# EAGLE library part HEX (library dec-con)
Hex-Height DEC Edge Connector
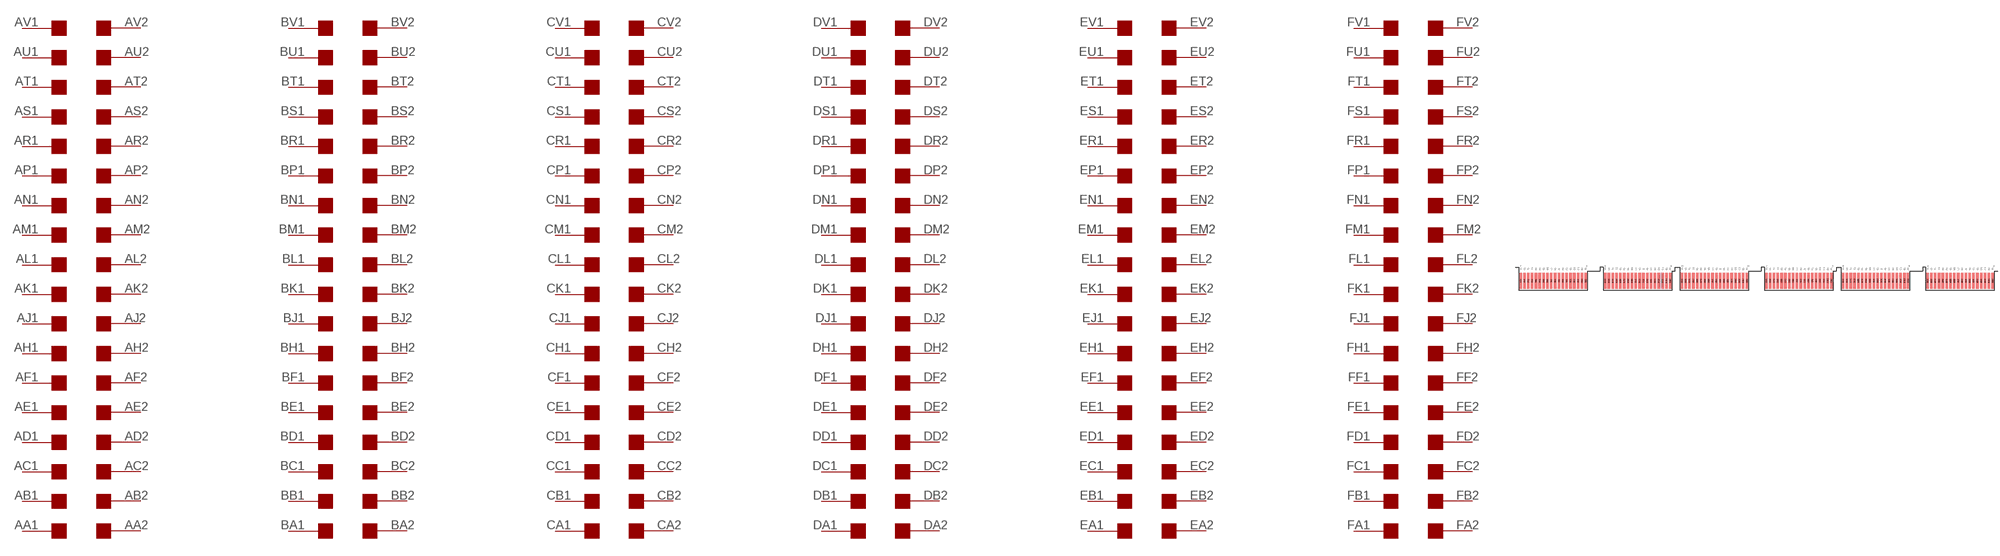
[diagram p15: symbol with the pads of EDGE-CON12; footprint EDGE-CON12]

Designator prefix -; gates AL2=EDGE-RIGHT AM2=EDGE-RIGHT AN2=EDGE-RIGHT AP2=EDGE-RIGHT AR2=EDGE-RIGHT AS2=EDGE-RIGHT AT2=EDGE-RIGHT AK2=EDGE-RIGHT AJ2=EDGE-RIGHT AH2=EDGE-RIGHT AF2=EDGE-RIGHT AE2=EDGE-RIGHT AD2=EDGE-RIGHT AC2=EDGE-RIGHT AU2=EDGE-RIGHT AV2=EDGE-RIGHT AB2=EDGE-RIGHT AA2=EDGE-RIGHT AK1=EDGE-LEFT AL1=EDGE-LEFT AM1=EDGE-LEFT AN1=EDGE-LEFT AP1=EDGE-LEFT AR1=EDGE-LEFT AS1=EDGE-LEFT AT1=EDGE-LEFT AU1=EDGE-LEFT AV1=EDGE-LEFT AJ1=EDGE-LEFT AH1=EDGE-LEFT AF1=EDGE-LEFT AE1=EDGE-LEFT AD1=EDGE-LEFT AC1=EDGE-LEFT AB1=EDGE-LEFT AA1=EDGE-LEFT BV1=EDGE-LEFT BU1=EDGE-LEFT BT1=EDGE-LEFT BS1=EDGE-LEFT BR1=EDGE-LEFT BP1=EDGE-LEFT BN1=EDGE-LEFT BM1=EDGE-LEFT BL1=EDGE-LEFT BK1=EDGE-LEFT BJ1=EDGE-LEFT BH1=EDGE-LEFT BF1=EDGE-LEFT BE1=EDGE-LEFT BD1=EDGE-LEFT BC1=EDGE-LEFT BB1=EDGE-LEFT BA1=EDGE-LEFT BV2=EDGE-RIGHT BU2=EDGE-RIGHT BT2=EDGE-RIGHT BS2=EDGE-RIGHT BR2=EDGE-RIGHT BP2=EDGE-RIGHT BN2=EDGE-RIGHT BM2=EDGE-RIGHT BL2=EDGE-RIGHT BK2=EDGE-RIGHT BJ2=EDGE-RIGHT BH2=EDGE-RIGHT BF2=EDGE-RIGHT BE2=EDGE-RIGHT BD2=EDGE-RIGHT BC2=EDGE-RIGHT BB2=EDGE-RIGHT BA2=EDGE-RIGHT CV1=EDGE-LEFT CU1=EDGE-LEFT CT1=EDGE-LEFT CS1=EDGE-LEFT CR1=EDGE-LEFT CP1=EDGE-LEFT CN1=EDGE-LEFT CM1=EDGE-LEFT CL1=EDGE-LEFT CK1=EDGE-LEFT CJ1=EDGE-LEFT CH1=EDGE-LEFT CF1=EDGE-LEFT CE1=EDGE-LEFT CD1=EDGE-LEFT CC1=EDGE-LEFT CB1=EDGE-LEFT CA1=EDGE-LEFT DV1=EDGE-LEFT DU1=EDGE-LEFT DT1=EDGE-LEFT DS1=EDGE-LEFT DR1=EDGE-LEFT DP1=EDGE-LEFT DN1=EDGE-LEFT DM1=EDGE-LEFT DL1=EDGE-LEFT DK1=EDGE-LEFT DJ1=EDGE-LEFT DH1=EDGE-LEFT DF1=EDGE-LEFT DE1=EDGE-LEFT DD1=EDGE-LEFT DC1=EDGE-LEFT DB1=EDGE-LEFT DA1=EDGE-LEFT CV2=EDGE-RIGHT CU2=EDGE-RIGHT CT2=EDGE-RIGHT CS2=EDGE-RIGHT CR2=EDGE-RIGHT CP2=EDGE-RIGHT CN2=EDGE-RIGHT CM2=EDGE-RIGHT CL2=EDGE-RIGHT CK2=EDGE-RIGHT CJ2=EDGE-RIGHT CH2=EDGE-RIGHT CF2=EDGE-RIGHT CE2=EDGE-RIGHT CD2=EDGE-RIGHT CC2=EDGE-RIGHT CB2=EDGE-RIGHT CA2=EDGE-RIGHT DV2=EDGE-RIGHT DU2=EDGE-RIGHT DT2=EDGE-RIGHT DS2=EDGE-RIGHT DR2=EDGE-RIGHT DP2=EDGE-RIGHT DN2=EDGE-RIGHT DM2=EDGE-RIGHT DL2=EDGE-RIGHT DK2=EDGE-RIGHT DJ2=EDGE-RIGHT DH2=EDGE-RIGHT DF2=EDGE-RIGHT DE2=EDGE-RIGHT DD2=EDGE-RIGHT DC2=EDGE-RIGHT DB2=EDGE-RIGHT DA2=EDGE-RIGHT EV1=EDGE-LEFT EU1=EDGE-LEFT ET1=EDGE-LEFT ES1=EDGE-LEFT ER1=EDGE-LEFT EP1=EDGE-LEFT EN1=EDGE-LEFT EM1=EDGE-LEFT EL1=EDGE-LEFT EK1=EDGE-LEFT EJ1=EDGE-LEFT EH1=EDGE-LEFT EF1=EDGE-LEFT EE1=EDGE-LEFT ED1=EDGE-LEFT EC1=EDGE-LEFT EB1=EDGE-LEFT EA1=EDGE-LEFT FV1=EDGE-LEFT FU1=EDGE-LEFT FT1=EDGE-LEFT FS1=EDGE-LEFT FR1=EDGE-LEFT FP1=EDGE-LEFT FN1=EDGE-LEFT FM1=EDGE-LEFT FL1=EDGE-LEFT FK1=EDGE-LEFT FJ1=EDGE-LEFT FH1=EDGE-LEFT FF1=EDGE-LEFT FE1=EDGE-LEFT FD1=EDGE-LEFT FC1=EDGE-LEFT FB1=EDGE-LEFT FA1=EDGE-LEFT EV2=EDGE-RIGHT EU2=EDGE-RIGHT ET2=EDGE-RIGHT ES2=EDGE-RIGHT ER2=EDGE-RIGHT EP2=EDGE-RIGHT EN2=EDGE-RIGHT EM2=EDGE-RIGHT EL2=EDGE-RIGHT EK2=EDGE-RIGHT EJ2=EDGE-RIGHT EH2=EDGE-RIGHT EF2=EDGE-RIGHT EE2=EDGE-RIGHT ED2=EDGE-RIGHT EC2=EDGE-RIGHT EB2=EDGE-RIGHT EA2=EDGE-RIGHT FV2=EDGE-RIGHT FU2=EDGE-RIGHT FT2=EDGE-RIGHT FS2=EDGE-RIGHT FR2=EDGE-RIGHT FP2=EDGE-RIGHT FN2=EDGE-RIGHT FM2=EDGE-RIGHT FL2=EDGE-RIGHT FK2=EDGE-RIGHT FJ2=EDGE-RIGHT FH2=EDGE-RIGHT FF2=EDGE-RIGHT FE2=EDGE-RIGHT FD2=EDGE-RIGHT FC2=EDGE-RIGHT FB2=EDGE-RIGHT FA2=EDGE-RIGHT

## HEX  [EDGE-CON12]
AA1  AA1:1  pas
AA2  AA2:1  pas
AB1  AB1:1  pas
AB2  AB2:1  pas
AC1  AC1:1  pas
AC2  AC2:1  pas
AD1  AD1:1  pas
AD2  AD2:1  pas
AE1  AE1:1  pas
AE2  AE2:1  pas
AF1  AF1:1  pas
AF2  AF2:1  pas
AH1  AH1:1  pas
AH2  AH2:1  pas
AJ1  AJ1:1  pas
AJ2  AJ2:1  pas
AK1  AK1:1  pas
AK2  AK2:1  pas
AL1  AL1:1  pas
AL2  AL2:1  pas
AM1  AM1:1  pas
AM2  AM2:1  pas
AN1  AN1:1  pas
AN2  AN2:1  pas
AP1  AP1:1  pas
AP2  AP2:1  pas
AR1  AR1:1  pas
AR2  AR2:1  pas
AS1  AS1:1  pas
AS2  AS2:1  pas
AT1  AT1:1  pas
AT2  AT2:1  pas
AU1  AU1:1  pas
AU2  AU2:1  pas
AV1  AV1:1  pas
AV2  AV2:1  pas
BA1  BA1:1  pas
BA2  BA2:1  pas
BB1  BB1:1  pas
BB2  BB2:1  pas
BC1  BC1:1  pas
BC2  BC2:1  pas
BD1  BD1:1  pas
BD2  BD2:1  pas
BE1  BE1:1  pas
BE2  BE2:1  pas
BF1  BF1:1  pas
BF2  BF2:1  pas
BH1  BH1:1  pas
BH2  BH2:1  pas
BJ1  BJ1:1  pas
BJ2  BJ2:1  pas
BK1  BK1:1  pas
BK2  BK2:1  pas
BL1  BL1:1  pas
BL2  BL2:1  pas
BM1  BM1:1  pas
BM2  BM2:1  pas
BN1  BN1:1  pas
BN2  BN2:1  pas
BP1  BP1:1  pas
BP2  BP2:1  pas
BR1  BR1:1  pas
BR2  BR2:1  pas
BS1  BS1:1  pas
BS2  BS2:1  pas
BT1  BT1:1  pas
BT2  BT2:1  pas
BU1  BU1:1  pas
BU2  BU2:1  pas
BV1  BV1:1  pas
BV2  BV2:1  pas
CA1  CA1:1  pas
CA2  CA2:1  pas
CB1  CB1:1  pas
CB2  CB2:1  pas
CC1  CC1:1  pas
CC2  CC2:1  pas
CD1  CD1:1  pas
CD2  CD2:1  pas
CE1  CE1:1  pas
CE2  CE2:1  pas
CF1  CF1:1  pas
CF2  CF2:1  pas
CH1  CH1:1  pas
CH2  CH2:1  pas
CJ1  CJ1:1  pas
CJ2  CJ2:1  pas
CK1  CK1:1  pas
CK2  CK2:1  pas
CL1  CL1:1  pas
CL2  CL2:1  pas
CM1  CM1:1  pas
CM2  CM2:1  pas
CN1  CN1:1  pas
CN2  CN2:1  pas
CP1  CP1:1  pas
CP2  CP2:1  pas
CR1  CR1:1  pas
CR2  CR2:1  pas
CS1  CS1:1  pas
CS2  CS2:1  pas
CT1  CT1:1  pas
CT2  CT2:1  pas
CU1  CU1:1  pas
CU2  CU2:1  pas
CV1  CV1:1  pas
CV2  CV2:1  pas
DA1  DA1:1  pas
DA2  DA2:1  pas
DB1  DB1:1  pas
DB2  DB2:1  pas
DC1  DC1:1  pas
DC2  DC2:1  pas
DD1  DD1:1  pas
DD2  DD2:1  pas
DE1  DE1:1  pas
DE2  DE2:1  pas
DF1  DF1:1  pas
DF2  DF2:1  pas
DH1  DH1:1  pas
DH2  DH2:1  pas
DJ1  DJ1:1  pas
DJ2  DJ2:1  pas
DK1  DK1:1  pas
DK2  DK2:1  pas
DL1  DL1:1  pas
DL2  DL2:1  pas
DM1  DM1:1  pas
DM2  DM2:1  pas
DN1  DN1:1  pas
DN2  DN2:1  pas
DP1  DP1:1  pas
DP2  DP2:1  pas
DR1  DR1:1  pas
DR2  DR2:1  pas
DS1  DS1:1  pas
DS2  DS2:1  pas
DT1  DT1:1  pas
DT2  DT2:1  pas
DU1  DU1:1  pas
DU2  DU2:1  pas
DV1  DV1:1  pas
DV2  DV2:1  pas
EA1  EA1:1  pas
EA2  EA2:1  pas
EB1  EB1:1  pas
EB2  EB2:1  pas
EC1  EC1:1  pas
EC2  EC2:1  pas
ED1  ED1:1  pas
ED2  ED2:1  pas
EE1  EE1:1  pas
EE2  EE2:1  pas
EF1  EF1:1  pas
EF2  EF2:1  pas
EH1  EH1:1  pas
EH2  EH2:1  pas
EJ1  EJ1:1  pas
EJ2  EJ2:1  pas
EK1  EK1:1  pas
EK2  EK2:1  pas
EL1  EL1:1  pas
EL2  EL2:1  pas
EM1  EM1:1  pas
EM2  EM2:1  pas
EN1  EN1:1  pas
EN2  EN2:1  pas
EP1  EP1:1  pas
EP2  EP2:1  pas
ER1  ER1:1  pas
ER2  ER2:1  pas
ES1  ES1:1  pas
ES2  ES2:1  pas
ET1  ET1:1  pas
ET2  ET2:1  pas
EU1  EU1:1  pas
EU2  EU2:1  pas
EV1  EV1:1  pas
EV2  EV2:1  pas
FA1  FA1:1  pas
FA2  FA2:1  pas
FB1  FB1:1  pas
FB2  FB2:1  pas
FC1  FC1:1  pas
FC2  FC2:1  pas
FD1  FD1:1  pas
FD2  FD2:1  pas
FE1  FE1:1  pas
FE2  FE2:1  pas
FF1  FF1:1  pas
FF2  FF2:1  pas
FH1  FH1:1  pas
FH2  FH2:1  pas
FJ1  FJ1:1  pas
FJ2  FJ2:1  pas
FK1  FK1:1  pas
FK2  FK2:1  pas
FL1  FL1:1  pas
FL2  FL2:1  pas
FM1  FM1:1  pas
FM2  FM2:1  pas
FN1  FN1:1  pas
FN2  FN2:1  pas
FP1  FP1:1  pas
FP2  FP2:1  pas
FR1  FR1:1  pas
FR2  FR2:1  pas
FS1  FS1:1  pas
FS2  FS2:1  pas
FT1  FT1:1  pas
FT2  FT2:1  pas
FU1  FU1:1  pas
FU2  FU2:1  pas
FV1  FV1:1  pas
FV2  FV2:1  pas

## Footprint EDGE-CON12 (pad centres in mm)
Double-Height DEC board
smd 2.032 x 13.017: AA1 394.573,7.709; AB1 391.468,7.684; AC1 388.306,7.684; AD1 385.115,7.684; AE1 381.94,7.693; AF1 378.739,7.668; AH1 375.59,7.668; AJ1 372.44,7.668; AK1 369.265,7.668; AL1 366.09,7.693; AM1 362.89,7.693; AN1 359.74,7.693; AP1 356.54,7.668; AR1 353.39,7.668; AS1 350.215,7.693; AT1 347.04,7.693; AU1 343.84,7.693; AV1 340.754,7.668; BA1 324.723,7.709; BB1 321.618,7.684; BC1 318.456,7.684; BD1 315.265,7.684; BE1 312.09,7.693; BF1 308.889,7.668; BH1 305.74,7.668; BJ1 302.59,7.668; BK1 299.415,7.668; BL1 296.24,7.693; BM1 293.04,7.693; BN1 289.89,7.693; BP1 286.69,7.668; BR1 283.54,7.668; BS1 280.365,7.693; BT1 277.19,7.693; BU1 273.99,7.693; BV1 270.904,7.668; CA1 261.223,7.709; CB1 258.118,7.684; CC1 254.956,7.684; CD1 251.765,7.684; CE1 248.59,7.693; CF1 245.389,7.668; CH1 242.24,7.668; CJ1 239.09,7.668; CK1 235.915,7.668; CL1 232.74,7.693; CM1 229.54,7.693; CN1 226.39,7.693; CP1 223.19,7.668; CR1 220.04,7.668; CS1 216.865,7.693; CT1 213.69,7.693; CU1 210.49,7.693; CV1 207.404,7.668; DA1 191.373,7.709; DB1 188.268,7.684; DC1 185.106,7.684; DD1 181.915,7.684; DE1 178.74,7.693; DF1 175.539,7.668; DH1 172.39,7.668; DJ1 169.24,7.668; DK1 166.065,7.668; DL1 162.89,7.693; DM1 159.69,7.693; DN1 156.54,7.693; DP1 153.34,7.668; DR1 150.19,7.668; DS1 147.015,7.693; DT1 143.84,7.693; DU1 140.64,7.693; DV1 137.554,7.668; EA1 127.873,7.709; EB1 124.768,7.684; EC1 121.606,7.684; ED1 118.415,7.684; EE1 115.24,7.693; EF1 112.039,7.668; EH1 108.89,7.668; EJ1 105.74,7.668; EK1 102.565,7.668; EL1 99.39,7.693; EM1 96.19,7.693; EN1 93.04,7.693; EP1 89.84,7.668; ER1 86.69,7.668; ES1 83.515,7.693; ET1 80.34,7.693; EU1 77.14,7.693; EV1 74.054,7.668; FA1 58.023,7.709; FB1 54.918,7.684; FC1 51.756,7.684; FD1 48.565,7.684; FE1 45.39,7.693; FF1 42.189,7.668; FH1 39.04,7.668; FJ1 35.89,7.668; FK1 32.715,7.668; FL1 29.54,7.693; FM1 26.34,7.693; FN1 23.19,7.693; FP1 19.99,7.668; FR1 16.84,7.668; FS1 13.665,7.693; FT1 10.49,7.693; FU1 7.29,7.693; FV1 4.204,7.668
smd 2.032 x 13.017 bottom: AA2 394.573,7.69; AB2 391.452,7.668; AC2 388.29,7.668; AD2 385.115,7.693; AE2 381.94,7.693; AF2 378.739,7.642; AH2 375.59,7.642; AJ2 372.44,7.668; AK2 369.265,7.668; AL2 366.09,7.693; AM2 362.89,7.693; AN2 359.74,7.693; AP2 356.54,7.668; AR2 353.39,7.668; AS2 350.215,7.693; AT2 347.04,7.693; AU2 343.814,7.693; AV2 340.754,7.668; BA2 324.723,7.69; BB2 321.602,7.668; BC2 318.44,7.668; BD2 315.265,7.693; BE2 312.09,7.693; BF2 308.889,7.642; BH2 305.74,7.642; BJ2 302.59,7.668; BK2 299.415,7.668; BL2 296.24,7.693; BM2 293.04,7.693; BN2 289.89,7.693; BP2 286.69,7.668; BR2 283.54,7.668; BS2 280.365,7.693; BT2 277.19,7.693; BU2 273.964,7.693; BV2 270.904,7.668; CA2 261.223,7.69; CB2 258.102,7.668; CC2 254.94,7.668; CD2 251.765,7.693; CE2 248.59,7.693; CF2 245.389,7.642; CH2 242.24,7.642; CJ2 239.09,7.668; CK2 235.915,7.668; CL2 232.74,7.693; CM2 229.54,7.693; CN2 226.39,7.693; CP2 223.19,7.668; CR2 220.04,7.668; CS2 216.865,7.693; CT2 213.69,7.693; CU2 210.464,7.693; CV2 207.404,7.668; DA2 191.373,7.69; DB2 188.252,7.668; DC2 185.09,7.668; DD2 181.915,7.693; DE2 178.74,7.693; DF2 175.539,7.642; DH2 172.39,7.642; DJ2 169.24,7.668; DK2 166.065,7.668; DL2 162.89,7.693; DM2 159.69,7.693; DN2 156.54,7.693; DP2 153.34,7.668; DR2 150.19,7.668; DS2 147.015,7.693; DT2 143.84,7.693; DU2 140.614,7.693; DV2 137.554,7.668; EA2 127.873,7.69; EB2 124.752,7.668; EC2 121.59,7.668; ED2 118.415,7.693; EE2 115.24,7.693; EF2 112.039,7.642; EH2 108.89,7.642; EJ2 105.74,7.668; EK2 102.565,7.668; EL2 99.39,7.693; EM2 96.19,7.693; EN2 93.04,7.693; EP2 89.84,7.668; ER2 86.69,7.668; ES2 83.515,7.693; ET2 80.34,7.693; EU2 77.114,7.693; EV2 74.054,7.668; FA2 58.023,7.69; FB2 54.902,7.668; FC2 51.74,7.668; FD2 48.565,7.693; FE2 45.39,7.693; FF2 42.189,7.642; FH2 39.04,7.642; FJ2 35.89,7.668; FK2 32.715,7.668; FL2 29.54,7.693; FM2 26.34,7.693; FN2 23.19,7.693; FP2 19.99,7.668; FR2 16.84,7.668; FS2 13.665,7.693; FT2 10.49,7.693; FU2 7.264,7.693; FV2 4.204,7.668